# Altium footprint library lite-on-packages.PcbLib: 2 footprints
Each footprint in its own frame and in the unit in brackets; x right, y up, seen from the top. Pads: shape width x height; smd on the part's side, far side on the other; paste and mask are expansions set on the pad; w line width, h text height; cw(c..) or ccw(c..) is an arc to the next point about the centre after c.
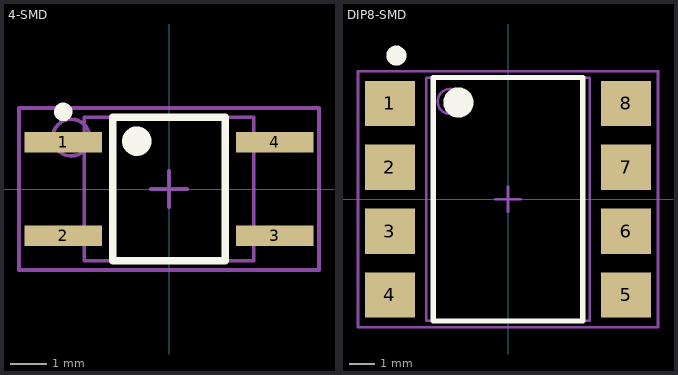
[diagram p0: the footprints below, top view; thin cyan lines are the x and y axes]

## 4-SMD [mm] "SOP, 4-Leads, Body 3.9x4.6mm (max), Pitch 2.54mm, IPC Medium Density"
height 2.3
pads (4):
  rect 2.1x0.55 smd: 1(-2.875,1.27) 2(-2.875,-1.27) 3(2.875,-1.27) 4(2.875,1.27)
Top Overlay:
  circle w0.25: c-2.875,2.095 r0.125
  circle w0.4: c-0.875,1.3 r0.2
  lines w0.2: -1.525,-1.95 1.525,-1.95 1.525,1.95 -1.525,1.95 -1.525,-1.95
Mechanical 13:
  lines w0.1: -0.5,0 0.5,0 ; 0,-0.5 0,0.5 ; -2.3,-1.95 2.3,-1.95 2.3,1.95 -2.3,1.95 -2.3,-1.95
Mechanical 15:
  circle w0.1: c-2.659,1.397 r0.5
  lines w0.1: -4.075,-2.2 4.075,-2.2 4.075,2.2 -4.075,2.2 -4.075,-2.2
  text ".Designator" at 0.2,-1.617 h0.5
3D body: height 2.09, standoff -0.01, extent -3.5,-1.8 3.5,1.8

## DIP8-SMD [mm] "DIP, 8-Leads, Body 9.7x6.5mm (max), Pitch 2.54mm, IPC Medium Density"
height 4
pads (8):
  rect 2x1.8 smd: 1(-4.699,3.81) 2(-4.699,1.27) 3(-4.699,-1.27) 4(-4.699,-3.81) 5(4.699,-3.81) 6(4.699,-1.27) 7(4.699,1.27) 8(4.699,3.81)
Top Overlay:
  circle w0.4: c-4.443,5.715 r0.2
  circle w0.6: c-1.975,3.85 r0.3
  lines w0.2: -2.975,-4.85 -2.975,4.85 2.975,4.85 2.975,-4.85 -2.975,-4.85
Mechanical 13:
  circle w0.1: c-2.3,3.89 r0.5
  lines w0.1: -0.5,0 0.5,0 ; 0,-0.5 0,0.5 ; -3.25,-4.84 -3.25,4.84 3.25,4.84 3.25,-4.84 -3.25,-4.84
Mechanical 15:
  lines w0.1: -5.969,-5.1 -5.969,5.1 5.969,5.1 5.969,-5.1 -5.969,-5.1
  text ".Designator" at 0.2,-1.617 h0.5
3D body: height 5.08, standoff 0, extent -5.15,-4.955 5.15,4.955